# Altium footprint library Fuse.PcbLib: 1 footprints
Each footprint in its own frame and in the unit in brackets; x right, y up, seen from the top. Pads: shape width x height; smd on the part's side, far side on the other; paste and mask are expansions set on the pad; w line width, h text height; cw(c..) or ccw(c..) is an arc to the next point about the centre after c.
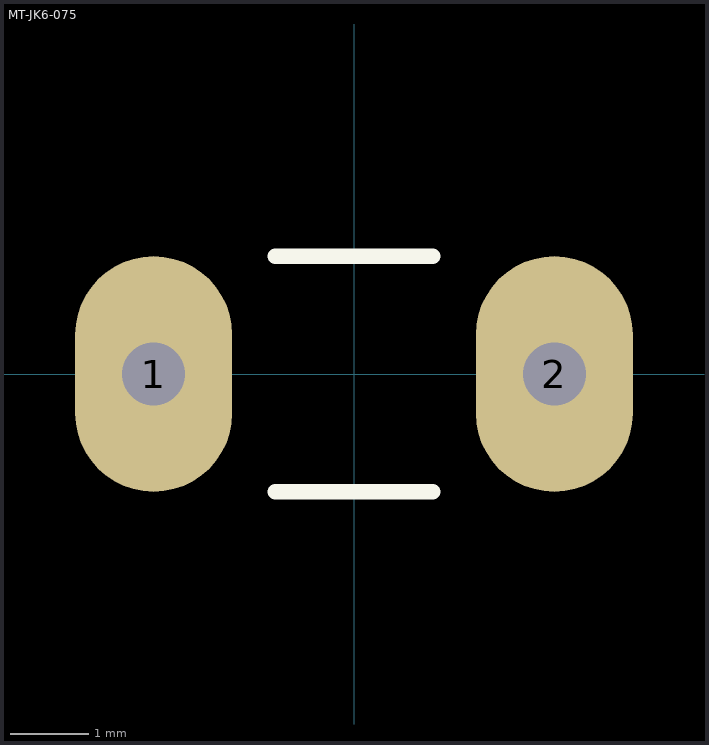
[diagram p0: the footprint, top view; thin cyan lines are the x and y axes]

## MT-JK6-075 [mm] "Fuse.Style F2. Предохранитель самовосстанавливающийся. 0.75A"
height 5.1
pads (2):
  oval 2x3 hole 0.8: 1(-2.55,0) 2(2.55,0)
Top Overlay:
  lines w0.2: -1,-1.5 1,-1.5 ; -1,1.5 1,1.5